# Altium footprint library DIP - Peg Leads.PcbLib: 71 footprints (part 5 of 5)
Each footprint in its own frame and in the unit in brackets; x right, y up, seen from the top. Pads: shape width x height; smd on the part's side, far side on the other; paste and mask are expansions set on the pad; w line width, h text height; cw(c..) or ccw(c..) is an arc to the next point about the centre after c.
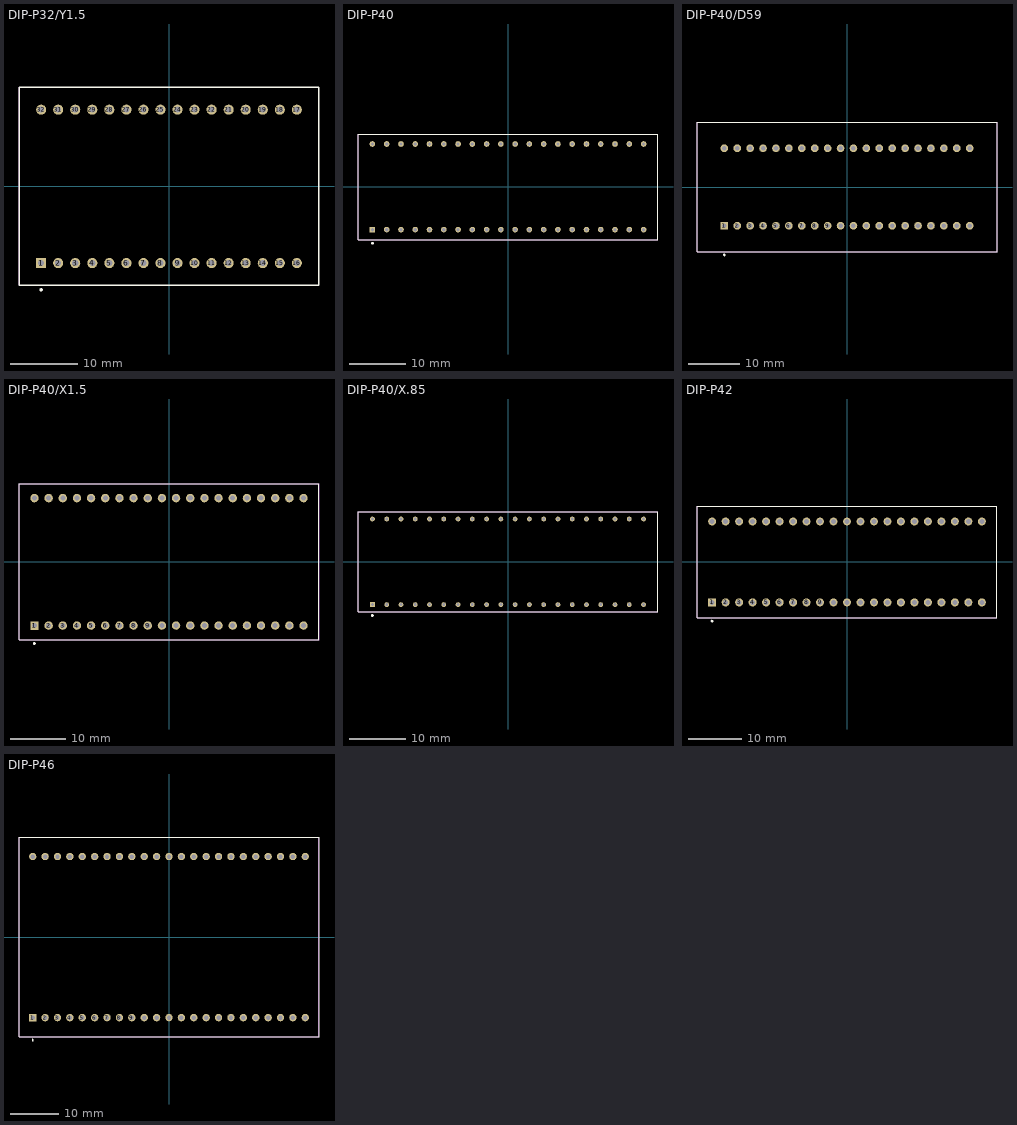
[diagram p4: the footprints below, top view; thin cyan lines are the x and y axes]

## DIP-P32/Y1.5 [mm] "DIP; 32 Round Pins; Row Space 22.86 mm; Pitch 2.54 mm"
height 5.84
pads (32):
  rect 1.5x1.5 hole 0.9: 1(-19.05,-11.43)
  round 1.5 hole 0.9: 2(-16.51,-11.43) 3(-13.97,-11.43) 4(-11.43,-11.43) 5(-8.89,-11.43) 6(-6.35,-11.43) 7(-3.81,-11.43) 8(-1.27,-11.43) 9(1.27,-11.43) 10(3.81,-11.43) 11(6.35,-11.43) 12(8.89,-11.43) 13(11.43,-11.43) 14(13.97,-11.43) 15(16.51,-11.43) 16(19.05,-11.43) 17(19.05,11.43) 18(16.51,11.43) 19(13.97,11.43) 20(11.43,11.43) 21(8.89,11.43) 22(6.35,11.43) 23(3.81,11.43) 24(1.27,11.43) 25(-1.27,11.43) 26(-3.81,11.43) 27(-6.35,11.43) 28(-8.89,11.43) 29(-11.43,11.43) 30(-13.97,11.43) 31(-16.51,11.43) 32(-19.05,11.43)
Top Overlay:
  circle w0.25: c-19.05,-15.4 r0.125
  lines w0.2: -22.35,-14.75 22.35,-14.75 22.35,14.75 -22.35,14.75 -22.35,-14.75
Mechanical 13:
  lines w0.1: -22.35,-14.75 22.35,-14.75 22.35,14.75 -22.35,14.75 -22.35,-14.75
3D body: height 5.84, standoff 0, extent -22.35,-14.75 22.35,14.75

## DIP-P40 [mm] "DIP; 40 Rectangular Pins; Row Space 15.24 mm; Pitch 2.54 mm"
height 9.27
pads (40):
  rect 1x1 hole 0.6: 1(-24.13,-7.62)
  round 1 hole 0.6: 2(-21.59,-7.62) 3(-19.05,-7.62) 4(-16.51,-7.62) 5(-13.97,-7.62) 6(-11.43,-7.62) 7(-8.89,-7.62) 8(-6.35,-7.62) 9(-3.81,-7.62) 10(-1.27,-7.62) 11(1.27,-7.62) 12(3.81,-7.62) 13(6.35,-7.62) 14(8.89,-7.62) 15(11.43,-7.62) 16(13.97,-7.62) 17(16.51,-7.62) 18(19.05,-7.62) 19(21.59,-7.62) 20(24.13,-7.62) 21(24.13,7.62) 22(21.59,7.62) 23(19.05,7.62) 24(16.51,7.62) 25(13.97,7.62) 26(11.43,7.62) 27(8.89,7.62) 28(6.35,7.62) 29(3.81,7.62) 30(1.27,7.62) 31(-1.27,7.62) 32(-3.81,7.62) 33(-6.35,7.62) 34(-8.89,7.62) 35(-11.43,7.62) 36(-13.97,7.62) 37(-16.51,7.62) 38(-19.05,7.62) 39(-21.59,7.62) 40(-24.13,7.62)
Top Overlay:
  circle w0.25: c-24.13,-10.05 r0.125
  lines w0.2: -26.7,-9.4 -26.7,9.4 26.7,9.4 26.7,-9.4 -26.7,-9.4
Mechanical 13:
  lines w0.1: -26.7,-9.4 26.7,-9.4 26.7,9.4 -26.7,9.4 -26.7,-9.4
3D body: height 9.27, standoff 0, extent -26.7,-9.4 26.7,9.4

## DIP-P40/D59 [mm] "DIP; 40 Round Pins; Row Space 15.24 mm; Pitch 2.54 mm"
height 6.23
pads (40):
  rect 1.5x1.5 hole 0.9: 1(-24.13,-7.62)
  round 1.5 hole 0.9: 2(-21.59,-7.62) 3(-19.05,-7.62) 4(-16.51,-7.62) 5(-13.97,-7.62) 6(-11.43,-7.62) 7(-8.89,-7.62) 8(-6.35,-7.62) 9(-3.81,-7.62) 10(-1.27,-7.62) 11(1.27,-7.62) 12(3.81,-7.62) 13(6.35,-7.62) 14(8.89,-7.62) 15(11.43,-7.62) 16(13.97,-7.62) 17(16.51,-7.62) 18(19.05,-7.62) 19(21.59,-7.62) 20(24.13,-7.62) 21(24.13,7.62) 22(21.59,7.62) 23(19.05,7.62) 24(16.51,7.62) 25(13.97,7.62) 26(11.43,7.62) 27(8.89,7.62) 28(6.35,7.62) 29(3.81,7.62) 30(1.27,7.62) 31(-1.27,7.62) 32(-3.81,7.62) 33(-6.35,7.62) 34(-8.89,7.62) 35(-11.43,7.62) 36(-13.97,7.62) 37(-16.51,7.62) 38(-19.05,7.62) 39(-21.59,7.62) 40(-24.13,7.62)
Top Overlay:
  circle w0.25: c-24.13,-13.35 r0.125
  lines w0.2: -29.5,-12.7 -29.5,12.7 29.5,12.7 29.5,-12.7 -29.5,-12.7
Mechanical 13:
  lines w0.1: -29.5,-12.7 29.5,-12.7 29.5,12.7 -29.5,12.7 -29.5,-12.7
3D body: height 6.23, standoff 0, extent -29.5,-12.7 29.5,12.7

## DIP-P40/X1.5 [mm] "DIP; 40 Round Pins; Row Space 22.86 mm; Pitch 2.54 mm"
height 4.45
pads (40):
  rect 1.5x1.5 hole 0.9: 1(-24.13,-11.43)
  round 1.5 hole 0.9: 2(-21.59,-11.43) 3(-19.05,-11.43) 4(-16.51,-11.43) 5(-13.97,-11.43) 6(-11.43,-11.43) 7(-8.89,-11.43) 8(-6.35,-11.43) 9(-3.81,-11.43) 10(-1.27,-11.43) 11(1.27,-11.43) 12(3.81,-11.43) 13(6.35,-11.43) 14(8.89,-11.43) 15(11.43,-11.43) 16(13.97,-11.43) 17(16.51,-11.43) 18(19.05,-11.43) 19(21.59,-11.43) 20(24.13,-11.43) 21(24.13,11.43) 22(21.59,11.43) 23(19.05,11.43) 24(16.51,11.43) 25(13.97,11.43) 26(11.43,11.43) 27(8.89,11.43) 28(6.35,11.43) 29(3.81,11.43) 30(1.27,11.43) 31(-1.27,11.43) 32(-3.81,11.43) 33(-6.35,11.43) 34(-8.89,11.43) 35(-11.43,11.43) 36(-13.97,11.43) 37(-16.51,11.43) 38(-19.05,11.43) 39(-21.59,11.43) 40(-24.13,11.43)
Top Overlay:
  circle w0.25: c-24.13,-14.65 r0.125
  lines w0.2: -26.9,-14 -26.9,14 26.9,14 26.9,-14 -26.9,-14
Mechanical 13:
  lines w0.1: -26.9,-14 -26.9,14 26.9,14 26.9,-14 -26.9,-14
3D body: height 4.45, standoff 0, extent -26.9,-14 26.9,14

## DIP-P40/X.85 [mm] "DIP; 40 Rectangular Pins; Row Space 15.24 mm; Pitch 2.54 mm"
height 9.25
pads (40):
  rect 0.85x0.85 hole 0.5: 1(-24.13,-7.62)
  round 0.85 hole 0.5: 2(-21.59,-7.62) 3(-19.05,-7.62) 4(-16.51,-7.62) 5(-13.97,-7.62) 6(-11.43,-7.62) 7(-8.89,-7.62) 8(-6.35,-7.62) 9(-3.81,-7.62) 10(-1.27,-7.62) 11(1.27,-7.62) 12(3.81,-7.62) 13(6.35,-7.62) 14(8.89,-7.62) 15(11.43,-7.62) 16(13.97,-7.62) 17(16.51,-7.62) 18(19.05,-7.62) 19(21.59,-7.62) 20(24.13,-7.62) 21(24.13,7.62) 22(21.59,7.62) 23(19.05,7.62) 24(16.51,7.62) 25(13.97,7.62) 26(11.43,7.62) 27(8.89,7.62) 28(6.35,7.62) 29(3.81,7.62) 30(1.27,7.62) 31(-1.27,7.62) 32(-3.81,7.62) 33(-6.35,7.62) 34(-8.89,7.62) 35(-11.43,7.62) 36(-13.97,7.62) 37(-16.51,7.62) 38(-19.05,7.62) 39(-21.59,7.62) 40(-24.13,7.62)
Top Overlay:
  circle w0.25: c-24.13,-9.55 r0.125
  lines w0.2: -26.7,-8.9 -26.7,8.9 26.7,8.9 26.7,-8.9 -26.7,-8.9
Mechanical 13:
  lines w0.1: -26.7,-8.9 -26.7,8.9 26.7,8.9 26.7,-8.9 -26.7,-8.9
3D body: height 9.25, standoff 0, extent -26.7,-8.9 26.7,8.9

## DIP-P42 [mm] "DIP; 42 Rectangular Pins; Row Space 15.24 mm; Pitch 2.54 mm"
height 6.5
pads (42):
  rect 1.5x1.5 hole 0.9: 1(-25.4,-7.62)
  round 1.5 hole 0.9: 2(-22.86,-7.62) 3(-20.32,-7.62) 4(-17.78,-7.62) 5(-15.24,-7.62) 6(-12.7,-7.62) 7(-10.16,-7.62) 8(-7.62,-7.62) 9(-5.08,-7.62) 10(-2.54,-7.62) 11(0,-7.62) 12(2.54,-7.62) 13(5.08,-7.62) 14(7.62,-7.62) 15(10.16,-7.62) 16(12.7,-7.62) 17(15.24,-7.62) 18(17.78,-7.62) 19(20.32,-7.62) 20(22.86,-7.62) 21(25.4,-7.62) 22(25.4,7.62) 23(22.86,7.62) 24(20.32,7.62) 25(17.78,7.62) 26(15.24,7.62) 27(12.7,7.62) 28(10.16,7.62) 29(7.62,7.62) 30(5.08,7.62) 31(2.54,7.62) 32(0,7.62) 33(-2.54,7.62) 34(-5.08,7.62) 35(-7.62,7.62) 36(-10.16,7.62) 37(-12.7,7.62) 38(-15.24,7.62) 39(-17.78,7.62) 40(-20.32,7.62) 41(-22.86,7.62) 42(-25.4,7.62)
Top Overlay:
  circle w0.25: c-25.4,-11.15 r0.125
  lines w0.2: -28.25,-10.5 28.25,-10.5 28.25,10.5 -28.25,10.5 -28.25,-10.5
Mechanical 13:
  lines w0.1: -28.25,-10.5 28.25,-10.5 28.25,10.5 -28.25,10.5 -28.25,-10.5
3D body: height 6.5, standoff 0, extent -28.25,-10.5 28.25,10.5

## DIP-P46 [mm] "DIP; 46 Round Pins; Row Space 33.02 mm; Pitch 2.54 mm"
height 6.38
pads (46):
  rect 1.5x1.5 hole 0.9: 1(-27.94,-16.51)
  round 1.5 hole 0.9: 2(-25.4,-16.51) 3(-22.86,-16.51) 4(-20.32,-16.51) 5(-17.78,-16.51) 6(-15.24,-16.51) 7(-12.7,-16.51) 8(-10.16,-16.51) 9(-7.62,-16.51) 10(-5.08,-16.51) 11(-2.54,-16.51) 12(0,-16.51) 13(2.54,-16.51) 14(5.08,-16.51) 15(7.62,-16.51) 16(10.16,-16.51) 17(12.7,-16.51) 18(15.24,-16.51) 19(17.78,-16.51) 20(20.32,-16.51) 21(22.86,-16.51) 22(25.4,-16.51) 23(27.94,-16.51) 24(27.94,16.51) 25(25.4,16.51) 26(22.86,16.51) 27(20.32,16.51) 28(17.78,16.51) 29(15.24,16.51) 30(12.7,16.51) 31(10.16,16.51) 32(7.62,16.51) 33(5.08,16.51) 34(2.54,16.51) 35(0,16.51) 36(-2.54,16.51) 37(-5.08,16.51) 38(-7.62,16.51) 39(-10.16,16.51) 40(-12.7,16.51) 41(-15.24,16.51) 42(-17.78,16.51) 43(-20.32,16.51) 44(-22.86,16.51) 45(-25.4,16.51) 46(-27.94,16.51)
Top Overlay:
  circle w0.25: c-27.94,-21.1 r0.125
  lines w0.2: -30.75,-20.45 30.75,-20.45 30.75,20.45 -30.75,20.45 -30.75,-20.45
Mechanical 13:
  lines w0.1: -30.75,-20.45 30.75,-20.45 30.75,20.45 -30.75,20.45 -30.75,-20.45
3D body: height 6.38, standoff 0, extent -30.75,-20.45 30.75,20.45